# Altium footprint library SMD-SODxx.PcbLib: 8 footprints
Each footprint in its own frame and in the unit in brackets; x right, y up, seen from the top. Pads: shape width x height; smd on the part's side, far side on the other; paste and mask are expansions set on the pad; w line width, h text height; cw(c..) or ccw(c..) is an arc to the next point about the centre after c.
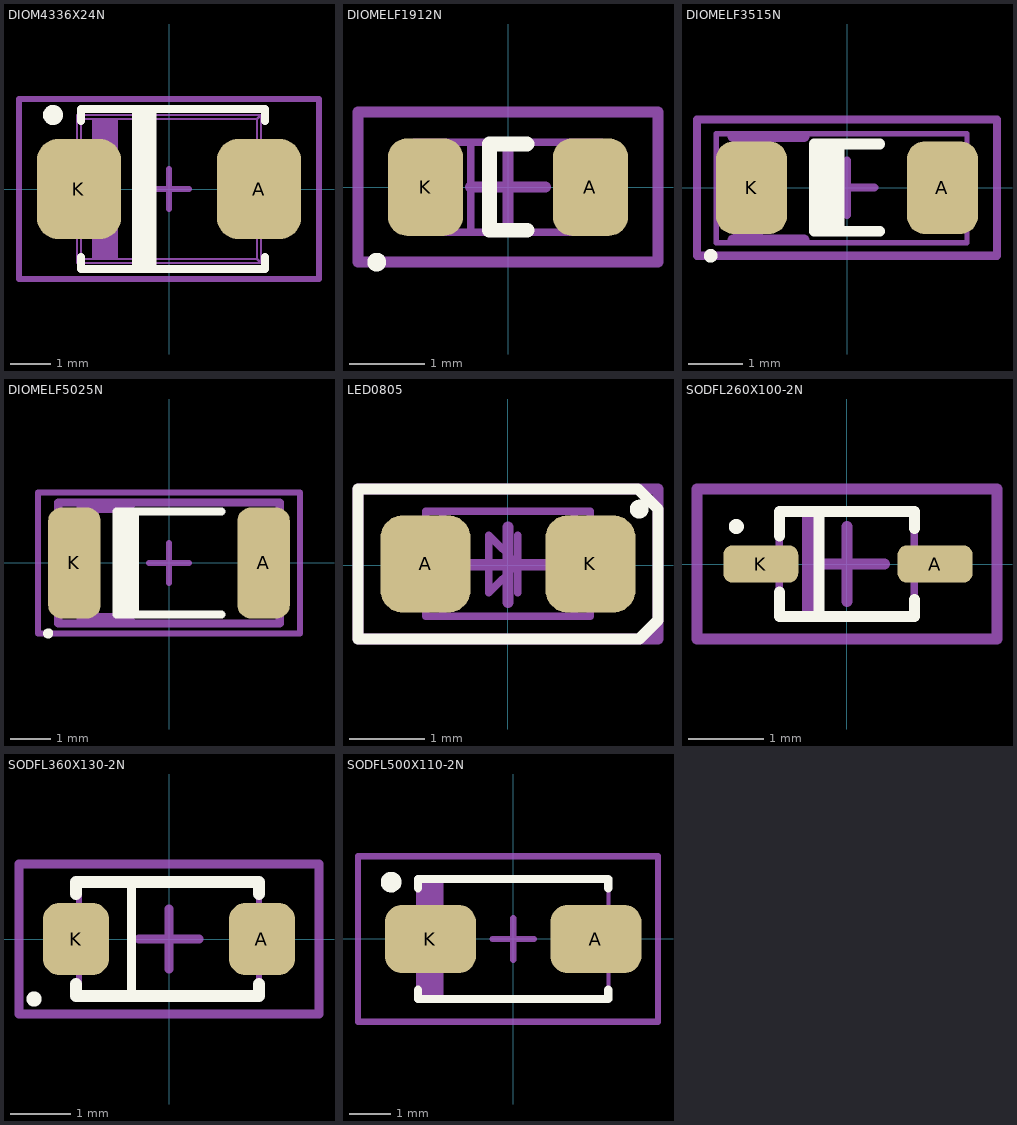
[diagram p0: the footprints below, top view; thin cyan lines are the x and y axes]

## DIOM4336X24N [mm] "SMB, Molded Diode, 2-Leads, Body 4,33x3,65mm, IPC Medium Density"
height 2.4
pads (2):
  rrect50% 2.1x2.5 smd: A(2.25,0) K(-2.25,0)
Top Overlay:
  circle w0.25: c-2.9,1.85 r0.125
  rectangle: -0.93,-2 -0.311,2
  lines w0.2: -2.2,-1.7 -2.2,-2 2.4,-2 2.4,-1.7 ; -2.2,1.7 -2.2,2 2.4,2 2.4,1.7
Top Assembly:
  region: -1.3,1.75 -1.9,1.75 -1.9,-1.75 -1.3,-1.75
  lines w0.05: -2.4,-1 -2.3,-1 ; -2.4,-1 -2.65,-1 -2.65,1 -2.4,1 ; -2.4,-1 -2.4,1 ; -2.4,1 -2.3,1 ; -2.3,-1.85 -2.2,-1.75 ; -2.3,-1.85 -2.3,-1 ; -2.3,-1.85 2.3,-1.85 ; -2.3,-1 -2.3,1 ; -2.3,1 -2.3,1.85 ; -2.3,1.85 -2.2,1.75 ; -2.3,1.85 2.3,1.85 ; -2.2,-1.75 -2.2,1.75 ; -2.2,-1.75 -1.9,-1.75 ; -2.2,1.75 -1.9,1.75 ; -1.9,-1.75 -1.3,-1.75 ; -1.9,-1.75 -1.9,1.75 ; -1.9,1.75 -1.3,1.75 ; -1.3,-1.75 -1.3,1.75 ; -1.3,-1.75 2.2,-1.75 ; -1.3,1.75 2.2,1.75 ; 2.2,-1.75 2.3,-1.85 ; 2.2,-1.75 2.2,1.75 ; 2.2,1.75 2.3,1.85 ; 2.3,-1.85 2.3,-1 ; 2.3,-1 2.4,-1 ; 2.3,-1 2.3,1 ; 2.3,1 2.3,1.85 ; 2.3,1 2.4,1 ; 2.4,-1 2.65,-1 2.65,1 2.4,1 ; 2.4,-1 2.4,1
Top Component Outline:
  lines w0.15: -0.5,0 0.5,0 ; 0,-0.5 0,0.5 ; -3.75,-2.25 3.75,-2.25 3.75,2.25 -3.75,2.25 -3.75,-2.25
3D body "SMB (DO-214AA).STEP": height 2.2, standoff -0.05, extent -2.65,-1.85 2.65,1.85

## DIOMELF1912N [mm] "MELF Diode, 2-Leads, Body 1,90x1,15mm, IPC Medium Density"
height 1.2
pads (2):
  rrect50% 1x1.3 smd: A(1.1,0) K(-1.1,0)
Top Overlay:
  circle w0.15: c-1.75,-1 r0.05
  lines w0.2: 0.25,-0.575 -0.25,-0.575 -0.25,0.575 0.25,0.575
Top Assembly:
  lines w0.1: -0.75,-0.6 -0.75,0.6 ; -0.5,-0.6 -0.5,0.6 ; -1.25,-0.6 -1.25,0.6 1.25,0.6 1.25,-0.6 -1.25,-0.6
Top Component Outline:
  lines w0.15: -0.5,0 0.5,0 ; 0,-0.5 0,0.5 ; -2,-1 -2,1 2,1 2,-1 -2,-1
3D body "DIOMELF1912N.step": height 1.15, standoff 0, extent -0.95,-0.574 0.95,0.574

## DIOMELF3515N [mm] "SOD-80, MELF Diode, 2-Leads, Body 3,50x1,45mm, IPC Medium Density"
height 1.6
pads (2):
  rrect50% 1.3x1.7 smd: A(1.75,0) K(-1.75,0)
Top Overlay:
  circle w0.15: c-2.5,-1.25 r0.05
  region: -0.05,0.8 -0.6,0.8 -0.6,-0.8 -0.05,-0.8
  lines w0.2: 0.6,-0.8 -0.6,-0.8 -0.6,0.8 0.6,0.8
Top Assembly:
  region: -1.538,0.839 -2.088,0.839 -2.088,-0.961 -1.538,-0.961
  lines w0.1: -2.4,-1.011 2.2,-1.011 2.2,0.989 -2.4,0.989 -2.4,-1.011
  lines w0.2: -2.088,-0.961 -0.788,-0.961 ; -2.088,0.939 -0.788,0.939
Top Component Outline:
  lines w0.15: -0.5,0 0.5,0 ; 0,-0.5 0,0.5 ; -2.75,-1.25 2.75,-1.25 2.75,1.25 -2.75,1.25 -2.75,-1.25
3D body "Minimelf.step": height 1.4, standoff 0, extent -1.75,-0.689 1.75,0.711

## DIOMELF5025N [mm] "MELF Diode, 2-Leads, Body 5,00x2,50mm, IPC Medium Density"
height 2.6
pads (2):
  rrect50% 1.3x2.75 smd: A(2.35,0) K(-2.35,0)
Top Overlay:
  circle w0.15: c-3,-1.75 r0.05
  region: -0.75,1.275 -1.3,1.275 -1.3,-1.275 -0.75,-1.275
  lines w0.2: 1.3,-1.275 -1.3,-1.275 -1.3,1.275 1.3,1.275
Top Assembly:
  region: -1.75,1.5 -2.3,1.5 -2.3,-1.5 -1.75,-1.5
  region: -1.75,-1.25 -1,-1.25 -0.75,-1.5 -1.75,-1.5
  region: -1.75,1.25 -1,1.25 -0.75,1.5 -1.75,1.5
  lines w0.2: -2.75,-1.5 2.75,-1.5 2.75,1.5 -2.75,1.5 -2.75,-1.5
Top Component Outline:
  lines w0.15: -0.5,0 0.5,0 ; 0,-0.5 0,0.5 ; -3.25,-1.75 3.25,-1.75 3.25,1.75 -3.25,1.75 -3.25,-1.75
3D body "MELF.STEP": height 2.5, standoff 0, extent -2.616,-1.25 2.384,1.25

## LED0805 [mm] "Chip Resistor, 2-Leads, Body 2,00x1,25mm, IPC Medium Density"
height 0.7
pads (2):
  rrect50% 1.2x1.3 smd: A(-1.1,0.018) K(1.1,0.018)
Top Overlay:
  circle w0.15: c1.75,0.75 r0.05
  lines w0.15: -2,-0.982 1.75,-0.982 2,-0.732 2,0.75 1.732,1.018 -2,1.018 -2,-0.982
Top Assembly:
  lines w0.1: -0.871,-0.682 -0.871,0.718 ; 0.127,-0.363 0.127,0.399 ; 0.881,-0.682 0.881,0.718 ; -1.1,-0.682 -1.1,0.718 1.1,0.718 1.1,-0.682 -1.1,-0.682 ; -0.254,-0.363 -0.254,0.272 -0.254,0.399 0.127,0.018 -0.254,-0.363
Top Component Outline:
  lines w0.15: -0.5,0.009 0.5,0.009 ; 0,-0.491 0,0.509 ; -2,-0.982 2,-0.982 2,1.018 -2,1.018 -2,-0.982
3D body "Led 0805-Green.STEP": height 1.1, standoff 0, extent -1.01,-0.616 1.01,0.634

## SODFL260X100-2N [mm] "SOD-323 SODFL, 2-Leads, Body 1,30x2,60mm, IPC Medium Density"
height 1
pads (2):
  rrect50% 1x0.5 smd: A(1.175,0) K(-1.15,0)
Top Overlay:
  circle w0.1: c-1.475,0.5 r0.05
  lines w0.15: -0.9,-0.375 -0.9,-0.7 0.9,-0.7 0.9,-0.475 ; -0.9,0.375 -0.9,0.7 0.9,0.7 0.9,0.475 ; -0.375,-0.7 -0.375,0.7
Top Assembly:
  region: -0.375,-0.7 -0.375,0.7 -0.6,0.7 -0.6,-0.7
  lines w0.1: -0.375,-0.7 -0.375,0.7 ; -1.274,-0.15 -1.274,0.15 ; -1.274,-0.15 -1.446,-0.15 -1.446,0.15 -1.274,0.15 ; -1.274,-0.15 -1.183,-0.15 ; -1.274,0.15 -1.183,0.15 ; -1.183,-0.15 -1.183,0.15 ; -1.183,-0.15 -1.171,-0.15 ; -1.183,0.15 -1.171,0.15 ; -1.171,-0.15 -1.171,0.15 ; -1.171,-0.15 -0.921,-0.15 ; -1.171,0.15 -0.921,0.15 ; -0.921,-0.15 -0.921,0.15 ; -0.921,-0.15 -0.9,-0.15 -0.9,0.15 -0.921,0.15 ; 0.921,-0.15 0.921,0.15 ; 0.921,-0.15 0.9,-0.15 0.9,0.15 0.921,0.15 ; 0.921,-0.15 1.171,-0.15 ; 0.921,0.15 1.171,0.15 ; 1.171,-0.15 1.171,0.15 ; 1.171,-0.15 1.183,-0.15 ; 1.171,0.15 1.183,0.15 ; 1.183,-0.15 1.183,0.15 ; 1.183,-0.15 1.274,-0.15 ; 1.183,0.15 1.274,0.15 ; 1.274,-0.15 1.274,0.15 ; 1.274,-0.15 1.446,-0.15 1.446,0.15 1.274,0.15 ; -0.9,-0.7 0.9,-0.7 0.9,0.7 -0.9,0.7 -0.9,-0.7
Top Component Outline:
  lines w0.15: -0.5,0 0.5,0 ; 0,-0.5 0,0.5 ; -2,-1 2,-1 2,1 -2,1 -2,-1
3D body "SOD-323.STEP": height 1.1, standoff 0, extent -1.295,-0.675 1.305,0.675

## SODFL360X130-2N [mm] "SODFL, 2-Leads, Body 1,70x3,60mm, IPC Medium Density"
height 1.3
pads (2):
  rrect50% 1.1x1.2 smd: A(1.55,0) K(-1.55,0)
Top Overlay:
  circle w0.15: c-2.25,-1 r0.05
  lines w0.15: -0.625,-0.95 -0.625,0.95
  lines w0.2: -1.55,-0.75 -1.55,-0.95 1.5,-0.95 1.5,-0.75 ; -1.55,0.75 -1.55,0.95 1.5,0.95 1.5,0.75
Top Assembly:
  lines w0.1: -0.625,-0.9 -0.625,0.9 ; -1.5,-0.9 -1.5,0.9 1.5,0.9 1.5,-0.9 -1.5,-0.9
Top Component Outline:
  lines w0.15: -0.5,0 0.5,0 ; 0,-0.5 0,0.5 ; -2.5,-1.25 -2.5,1.25 2.5,1.25 2.5,-1.25 -2.5,-1.25
3D body "SODFL360X130-2N.step": height 1.3, standoff 0, extent -1.8,-0.9 1.8,0.9

## SODFL500X110-2N [mm] "SMA 2-Leads, Body 2,55x5,00mm, IPC Medium Density"
height 1.1
pads (2):
  rrect50% 2.2x1.65 smd: A(2,0) K(-2,0)
Top Overlay:
  circle w0.25: c-2.95,1.375 r0.125
  lines w0.2: -2.3,-1.225 -2.3,-1.45 2.3,-1.45 2.3,-1.225 ; -2.3,1.225 -2.3,1.45 2.3,1.45 2.3,1.225
Top Assembly:
  rectangle: -2.3,-1.45 -1.682,1.45
  lines w0.1: -2.3,-1.45 -2.3,1.45 2.3,1.45 2.3,-1.45 -2.3,-1.45
Top Component Outline:
  lines w0.15: -0.5,0 0.5,0 ; 0,-0.5 0,0.5 ; -3.75,-2 -3.75,2 3.5,2 3.5,-2 -3.75,-2
3D body "User Library-S1G-1.step": height 2.7, standoff 0, extent -2.8,-1.475 2.8,1.475